# EAGLE library part LM2574 (library lbm)
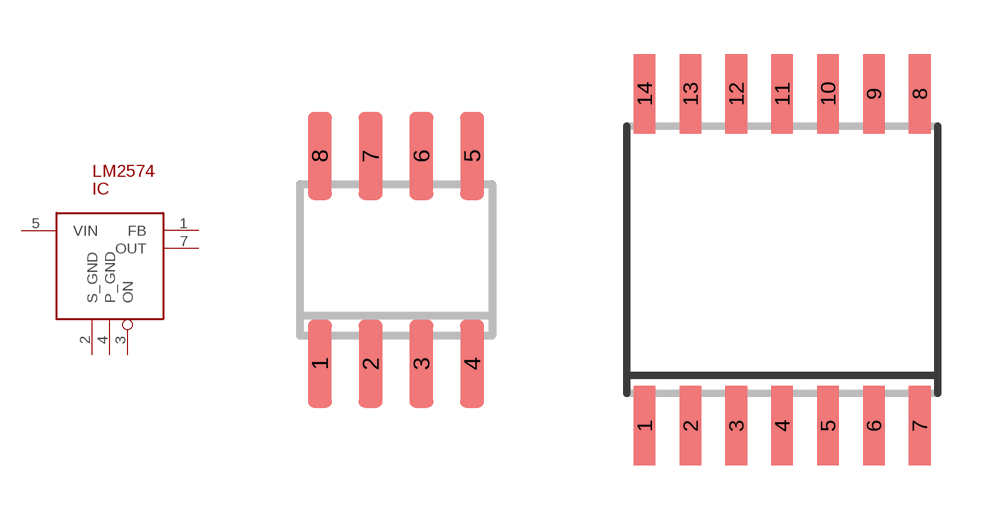
[diagram p43: symbol with the pads of SO8; footprints SO8, SO14W]

Designator prefix IC

## LM2574HVN-5  [SO8]
1  FB
2  S_GND
3  ON
4  P_GND
5  VIN
7  OUT

## LM2574HVM-5  [SO14W]
3  FB
4  S_GND
5  ON
6  P_GND
10  VIN
12  OUT

## Footprint SO8 (pad centres in mm)
smd 0.6 x 2.2: 1 -1.905,-2.6; 2 -0.635,-2.6; 3 0.635,-2.6; 4 1.905,-2.6; 5 1.905,2.6; 6 0.635,2.6; 7 -0.635,2.6; 8 -1.905,2.6

## Footprint SO14W (pad centres in mm)
Small Outline Package 14 wide
smd 0.6 x 2.2: 1 -3.81,-4.6; 2 -2.54,-4.6; 3 -1.27,-4.6; 4 0,-4.6; 5 1.27,-4.6; 6 2.54,-4.6; 7 3.81,-4.6; 8 3.81,4.6; 9 2.54,4.6; 10 1.27,4.6; 11 0,4.6; 12 -1.27,4.6; 13 -2.54,4.6; 14 -3.81,4.6